# Altium footprint library PMIC.PcbLib: 1 footprints
Each footprint in its own frame and in the unit in brackets; x right, y up, seen from the top. Pads: shape width x height; smd on the part's side, far side on the other; paste and mask are expansions set on the pad; w line width, h text height; cw(c..) or ccw(c..) is an arc to the next point about the centre after c.
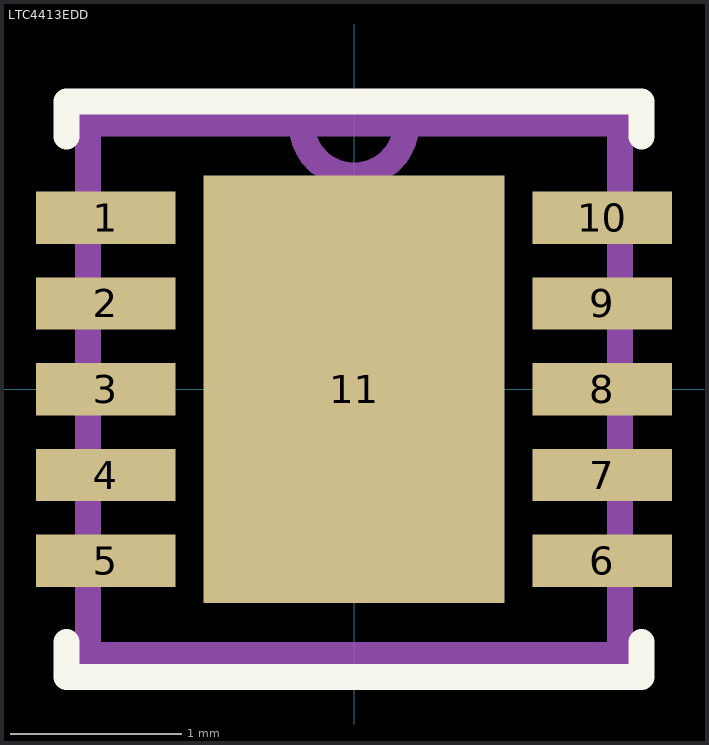
[diagram p0: the footprint, top view; thin cyan lines are the x and y axes]

## LTC4413EDD [mil]
pads (11):
  rect 32x12 smd: 1(-57,39.37) 2(-57,19.68) 3(-57,0) 4(-57,-19.68) 5(-57,-39.37) 6(57,-39.37) 7(57,-19.68) 8(57,0) 9(57,19.68) 10(57,39.37)
  rect 69x98 smd: 11(0,0)
Top Overlay:
  lines w6: -66,-58 -66,-66 66,-66 66,-58 ; -66,58 -66,66 66,66 66,58
Mechanical 13:
  lines w6: -12,61 ccw(c0,61) 12,61 ; -12,61 12,61 ; -12,61 -61,61 -61,-61 61,-61 61,61 12,61
3D body: height 29.53, standoff 0, extent -60,-60 60,60